# Altium footprint library FootPrintLib_6.PcbLib: 588 footprints (part 5 of 37)
Each footprint in its own frame and in the unit in brackets; x right, y up, seen from the top. Pads: shape width x height; smd on the part's side, far side on the other; paste and mask are expansions set on the pad; w line width, h text height; cw(c..) or ccw(c..) is an arc to the next point about the centre after c.
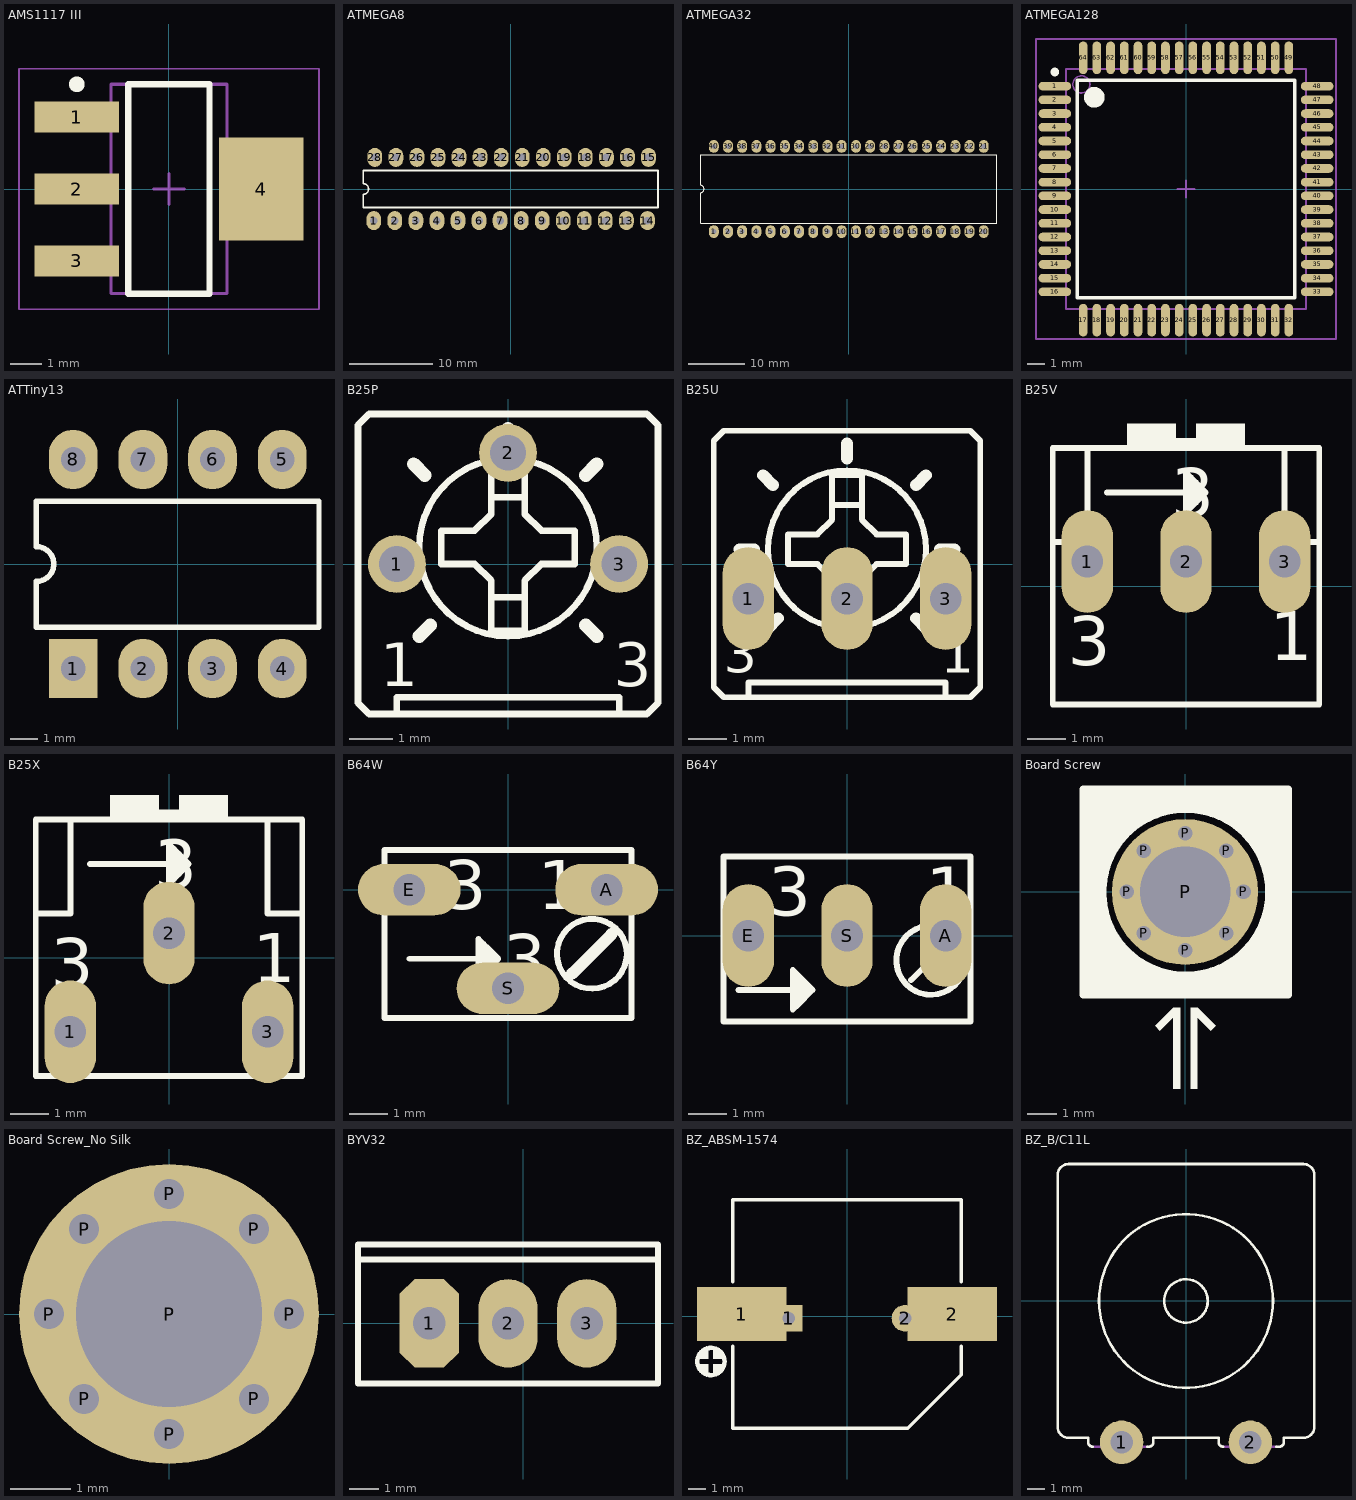
[diagram p4: the footprints below, top view; thin cyan lines are the x and y axes]

## AMS1117 III [mm]
pads (4):
  rect 2.7x1 smd: 1(-2.95,2.3) 2(-2.95,0) 3(-2.95,-2.3)
  rect 2.7x3.3 smd: 4(2.95,0)
Top Overlay:
  circle w0.25: c-2.95,3.35 r0.125
  lines w0.2: -1.3,-3.35 -1.3,3.35 1.3,3.35 1.3,-3.35 -1.3,-3.35
Mechanical 13:
  lines w0.1: -1.85,-3.35 -1.85,3.35 1.85,3.35 1.85,-3.35 -1.85,-3.35
Mechanical 15:
  lines w0.05: -4.8,-3.85 -4.8,3.85 4.8,3.85 4.8,-3.85 -4.8,-3.85
  lines w0.1: -0.5,0 0.5,0 ; 0,-0.5 0,0.5
3D body: height 1.8, standoff 0.02, extent -1.85,-3.35 1.85,3.35

## ATMEGA8 [mil]
pads (28):
  oval 70x90 hole 35.43: 1(-650,-150) 2(-550,-150) 3(-450,-150) 4(-350,-150) 5(-250,-150) 6(-150,-150) 7(-50,-150) 8(50,-150) 9(150,-150) 10(250,-150) 11(350,-150) 12(450,-150) 13(550,-150) 14(650,-150) 15(655,150) 16(555,150) 17(455,150) 18(355,150) 19(255,150) 20(155,150) 21(55,150) 22(-45,150) 23(-145,150) 24(-245,150) 25(-345,150) 26(-445,150) 27(-545,150) 28(-645,150)
Top Overlay:
  lines w7.87: -700,-87.6 -700,-25 ccw(c-700,0) -700,25 -700,87.6 700,87.6 700,-87.6 -700,-87.6

## ATMEGA32 [mil]
pads (40):
  oval 70x90 hole 35.43: 1(-950,-300) 2(-850,-300) 3(-750,-300) 4(-650,-300) 5(-550,-300) 6(-450,-300) 7(-350,-300) 8(-250,-300) 9(-150,-300) 10(-50,-300) 11(50,-300) 12(150,-300) 13(250,-300) 14(350,-300) 15(450,-300) 16(550,-300) 17(650,-300) 18(750,-300) 19(850,-300) 20(950,-300) 21(950,300) 22(850,300) 23(750,300) 24(650,300) 25(550,300) 26(450,300) 27(350,300) 28(250,300) 29(150,300) 30(50,300) 31(-50,300) 32(-150,300) 33(-250,300) 34(-350,300) 35(-450,300) 36(-550,300) 37(-650,300) 38(-750,300) 39(-850,300) 40(-950,300)
Top Overlay:
  lines w7.87: -1043.31,-240 1043.31,-240 1043.31,240 -1043.31,240 -1043.31,25 cw(c-1043.31,0) -1043.31,-25 -1043.31,-240

## ATMEGA128 [mm]
pads (64):
  oval 1.905x0.508 smd: 1(-7.65,6) 2(-7.65,5.2) 3(-7.65,4.4) 4(-7.65,3.6) 5(-7.65,2.8) 6(-7.65,2) 7(-7.65,1.2) 8(-7.65,0.4) 9(-7.65,-0.4) 10(-7.65,-1.2) 11(-7.65,-2) 12(-7.65,-2.8) 13(-7.65,-3.6) 14(-7.65,-4.4) 15(-7.65,-5.2) 16(-7.65,-6) 33(7.65,-6) 34(7.65,-5.2) 35(7.65,-4.4) 36(7.65,-3.6) 37(7.65,-2.8) 38(7.65,-2) 39(7.65,-1.2) 40(7.65,-0.4) 41(7.65,0.4) 42(7.65,1.2) 43(7.65,2) 44(7.65,2.8) 45(7.65,3.6) 46(7.65,4.4) 47(7.65,5.2) 48(7.65,6)
  oval 0.508x1.905 smd: 17(-6,-7.65) 18(-5.2,-7.65) 19(-4.4,-7.65) 20(-3.6,-7.65) 21(-2.8,-7.65) 22(-2,-7.65) 23(-1.2,-7.65) 24(-0.4,-7.65) 25(0.4,-7.65) 26(1.2,-7.65) 27(2,-7.65) 28(2.8,-7.65) 29(3.6,-7.65) 30(4.4,-7.65) 31(5.2,-7.65) 32(6,-7.65) 49(6,7.65) 50(5.2,7.65) 51(4.4,7.65) 52(3.6,7.65) 53(2.8,7.65) 54(2,7.65) 55(1.2,7.65) 56(0.4,7.65) 57(-0.4,7.65) 58(-1.2,7.65) 59(-2,7.65) 60(-2.8,7.65) 61(-3.6,7.65) 62(-4.4,7.65) 63(-5.2,7.65) 64(-6,7.65)
Top Overlay:
  circle w0.25: c-7.65,6.825 r0.125
  circle w0.6: c-5.35,5.35 r0.3
  lines w0.2: -6.35,-6.35 -6.35,6.35 6.35,6.35 6.35,-6.35 -6.35,-6.35
Mechanical 13:
  circle w0.1: c-6.1,6.1 r0.5
  lines w0.1: -7,-7 -7,7 7,7 7,-7 -7,-7
Mechanical 15:
  lines w0.1: -0.5,0 0.5,0 ; 0,-0.5 0,0.5 ; -8.75,-8.75 -8.75,8.75 8.75,8.75 8.75,-8.75 -8.75,-8.75

## ATTiny13 [mil]
pads (8):
  rect 70x85 hole 35.43: 1(-150,-150)
  oval 70x85 hole 35.43: 2(-50,-150) 3(50,-150) 4(150,-150) 5(150,150) 6(50,150) 7(-50,150) 8(-150,150)
Top Overlay:
  lines w7.87: -202.76,-91 -202.76,-25 ccw(c-202.76,0) -202.76,25 -202.76,90 202.76,90 202.76,-91 -202.76,-91

## B25P [mil]
pads (3):
  round 52 hole 32: 1(-100,0) 2(0,100) 3(100,0)
Top Overlay:
  circle w6: c0,15 r80
  lines w6: -100,-135 -125,-135 -135,-125 -135,-60 -135,-10 -135,125 -125,135 125,135 135,125 135,-10 135,-60 135,-125 125,-135 100,-135 ; -100,-135 -100,-120 -40,-120 40,-120 100,-120 100,-135 ; -100,-135 -25,-135 25,-135 100,-135 ; -15,-30 -15,-15 -30,0 -60,0 -60,30 -30,30 -15,45 -15,60 ; -15,-30 15,-30 ; -15,-30 -15,-60 15,-60 15,-30 ; -15,60 -15,90 15,90 15,60 ; -15,60 15,60 ; 15,-30 15,-15 30,0 60,0 60,30 30,30 15,45 15,60
  lines w12: -109,15 -94,15 ; -85,90 -75,80 ; -80,-65 -70,-55 ; 0,107 0,122 ; 70,-55 80,-65 ; 70,80 80,90 ; 94,15 109,15
  text "3" at 95,-110 h39
  text "1" at -115,-110 h39

## B25U [mil]
pads (3):
  oval 52x104 hole 32: 1(-100,-35) 2(0,-35) 3(100,-35)
Top Overlay:
  circle w6: c0,15 r80
  lines w6: 100,-135 100,-120 -100,-120 -100,-135 ; -100,-135 -125,-135 -135,-125 -135,-60 -135,-10 -135,125 -125,135 125,135 135,125 135,-10 135,-60 135,-125 125,-135 -100,-135 ; -15,-30 -15,-15 -30,0 -60,0 -60,30 -30,30 -15,45 -15,60 ; -15,-30 15,-30 ; -15,-30 -15,-60 15,-60 15,-30 ; -15,60 -15,90 15,90 15,60 ; -15,60 15,60 ; 15,-30 15,-15 30,0 60,0 60,30 30,30 15,45 15,60
  lines w12: -109,15 -94,15 ; -85,90 -75,80 ; -80,-65 -70,-55 ; 0,107 0,122 ; 70,-55 80,-65 ; 70,80 80,90 ; 94,15 109,15
  text "3" at -125,-110 h39
  text "1" at 95,-110 h39

## B25V [mil]
pads (3):
  oval 52x104 hole 32: 1(-100,25) 2(0,25) 3(100,25)
Top Overlay:
  rectangle: -60,140 -10,165
  rectangle: 10,140 60,165
  rectangle: -10,140 10,150
  lines w6: -135,45 -100,45 -100,70 -100,140 ; -80,95 5,95 ; 135,45 100,45 100,70 100,140 ; -100,140 100,140 ; -100,140 -135,140 -135,50 -135,0 -135,-120 135,-120 135,0 135,50 135,140 100,140 ; 5,80 10,85 ; 5,80 5,95 ; 5,80 0,75 0,115 5,110 ; 5,95 20,95 ; 5,95 5,110 ; 5,110 10,105 ; 10,85 10,105 ; 10,85 15,90 ; 10,105 15,100 ; 15,90 20,95 ; 15,90 15,100 ; 15,100 20,95
  text "3" at -120,-80 h50
  text "1" at 85,-75 h50
  text "3" at -15,70 h50

## B25X [mil]
pads (3):
  oval 52x104 hole 32: 1(-100,-75) 2(0,25) 3(100,-75)
Top Overlay:
  rectangle: -10,140 10,150
  rectangle: 10,140 60,165
  rectangle: -60,140 -10,165
  lines w6: -80,95 5,95 ; -135,45 -135,140 -100,140 ; -135,45 -100,45 -100,140 ; -135,45 -135,-50 -135,-100 -135,-120 135,-120 135,-100 135,-50 135,45 ; -100,140 100,140 ; 5,80 0,75 0,115 5,110 ; 5,80 5,95 ; 5,80 10,85 ; 5,95 5,110 ; 5,95 20,95 ; 5,110 10,105 ; 10,85 15,90 ; 10,85 10,105 ; 10,105 15,100 ; 15,90 15,100 ; 15,90 20,95 ; 15,100 20,95 ; 100,140 100,45 135,45 ; 100,140 135,140 135,45
  text "3" at -15,70 h50
  text "1" at 85,-25 h50
  text "3" at -120,-30 h50

## B64W [mil]
pads (3):
  oval 104x52 hole 32: A(100,0) E(-100,0) S(0,-100)
Top Overlay:
  lines w6: -100,-70 -25,-70 ; 50,-60 cw(c85,-65) 120,-60 cw(c85,-65) 60,-40 ; -25,-85 -20,-80 ; -25,-85 -25,-70 ; -25,-85 -30,-90 -30,-50 -25,-55 ; -25,-70 -10,-70 ; -25,-70 -25,-55 ; -25,-55 -20,-60 ; -20,-80 -20,-60 ; -20,-80 -15,-75 ; -20,-60 -15,-65 ; -15,-75 -10,-70 ; -15,-75 -15,-65 ; -15,-65 -10,-70 ; -125,-130 -125,-30 -125,30 -125,40 125,40 125,30 125,-30 125,-130 30,-130 -30,-130 -125,-130
  lines w12: 65,-85 105,-45
  text "3" at -65,-20 h50
  text "1" at 30,-20 h50
  text "3" at -5,-95 h50

## B64Y [mil]
pads (3):
  oval 52x104 hole 32: A(100,0) E(-100,0) S(0,0)
Top Overlay:
  circle w6: c85,-25 r35
  lines w6: -110,-55 -50,-55 ; 65,-45 105,-5 ; -50,-70 -45,-65 ; -50,-70 -50,-55 ; -50,-70 -55,-75 -55,-35 -50,-40 ; -50,-55 -35,-55 ; -50,-55 -50,-40 ; -50,-40 -45,-45 ; -45,-65 -45,-45 ; -45,-65 -40,-60 ; -45,-45 -40,-50 ; -40,-60 -35,-55 ; -40,-60 -40,-50 ; -40,-50 -35,-55 ; -125,-87 -125,-55 -125,55 -125,80 125,80 125,55 125,-55 125,-87 -125,-87
  text "1" at 80,20 h50
  text "3" at -80,20 h50

## Board Screw [mm]
pads (9):
  round 0.6 hole 0.5: P(-2,0) P(-1.414,-1.414) P(-1.414,1.414) P(0,-2) P(0,2) P(1.414,-1.414) P(1.414,1.414) P(2,0)
  round 5 hole 3.1 mask+0.1: P(0,0)
Top Overlay:
  circle w0.889: c0.025,-0.012 r3.165
  region: 0.433,-3.957 0.253,-4.137 0.882,-4.765 1.062,-4.586
  rectangle: 0.179,-6.751 0.433,-3.957
  region: -1.038,-4.586 -0.859,-4.765 -0.23,-4.137 -0.41,-3.957
  region: -0.156,-3.957 -0.41,-3.957 -0.41,-6.751 -0.156,-6.751
  region: -3.492,-3.528 -3.489,-3.531 -0.749,-3.531 -0.749,-3.482 -3.492,-0.739
  region: 3.559,-3.526 3.556,-3.528 0.816,-3.528 0.816,-3.479 3.559,-0.736
  region: 3.559,3.508 3.556,3.51 0.816,3.51 0.816,3.461 3.559,0.718
  region: -3.492,3.505 -3.489,3.508 -0.749,3.508 -0.749,3.458 -3.492,0.716
  lines w0.254: -3.494,-3.511 -3.494,3.522 3.539,3.522 ; -3.492,-3.528 3.542,-3.528 3.542,3.505
Bottom Overlay:
  circle w0.889: c0.025,-0.012 r3.165
  region: -3.492,3.505 -3.489,3.508 -0.749,3.508 -0.749,3.458 -3.492,0.716
  region: 3.559,3.508 3.556,3.51 0.816,3.51 0.816,3.461 3.559,0.718
  region: 3.559,-3.526 3.556,-3.528 0.816,-3.528 0.816,-3.479 3.559,-0.736
  region: -3.492,-3.528 -3.489,-3.531 -0.749,-3.531 -0.749,-3.482 -3.492,-0.739
  lines w0.254: -3.494,-3.511 -3.494,3.522 3.539,3.522 ; -3.492,-3.528 3.542,-3.528 3.542,3.505

## Board Screw_No Silk [mm]
pads (9):
  round 0.6 hole 0.5: P(-2,0) P(-1.414,-1.414) P(-1.414,1.414) P(0,-2) P(0,2) P(1.414,-1.414) P(1.414,1.414) P(2,0)
  round 5 hole 3.1 mask+0.1: P(0,0)

## BYV32 [mm] "BVY32-200"
height 29.16
pads (3):
  oct 2x3 hole 1.1: 1(-3.175,0)
  oval 2x3 hole 1.1: 2(-0.508,0) 3(2.159,0)
Top Overlay:
  lines w0.203: -5.588,2.413 -5.588,-2.032 4.572,-2.032 4.572,2.413 ; -5.588,2.159 -5.588,2.667 4.572,2.667 4.572,2.159 -5.588,2.159

## BZ_ABSM-1574 [mm] "Magnetic Transducer Buzzer"
pads (4):
  rect 5x3 smd: 1(-5.9,0.12) 2(5.9,0.12)
  rect 1.5x1.5 hole 0.7: 1(-3.25,-0.12)
  round 1.5 hole 0.7: 2(3.25,-0.12)
Top Overlay:
  circle w0.254: c-7.62,-2.54 r0.762
  rectangle: -8.255,-3.175 -7.747,-2.667
  rectangle: -7.493,-3.175 -6.985,-2.667
  rectangle: -7.493,-2.413 -6.985,-1.909
  rectangle: -8.255,-2.413 -7.747,-1.909
  lines w0.2: -6.4,-1.68 -6.4,-6.28 3.4,-6.28 6.4,-3.28 6.4,-1.68 ; -6.4,1.92 -6.4,6.52 6.4,6.52 6.4,1.92

## BZ_B/C11L [mil] "BUZZER  Source: Buerklin"
pads (2):
  round 100 hole 52: 1(-148,-325) 2(148,-325)
Top Overlay:
  circle w6: c0,0 r200
  circle w6: c0,0 r50
  lines w6: -215,-335 cw(c-215,-325) -225,-325 -225,-315 -270,-315 cw(c-270,-290) -295,-290 -295,290 cw(c-270,290) -270,315 270,315 cw(c270,290) 295,290 295,-290 cw(c270,-290) 270,-315 225,-315 225,-325 cw(c215,-325) 215,-335 207.17,-335 ; -88.86,-335 -85,-335 ccw(c-85,-325) -75,-325 -75,-315 75,-315 75,-325 ccw(c85,-325) 85,-335
Mechanical 1:
  lines w6: -215,-335 -207.17,-335 -185,-335 ccw(c-185,-325) -175,-325 ; -88.86,-335 -115,-335 cw(c-115,-325) -125,-325 ; 85,-335 88.86,-335 115,-335 ccw(c115,-325) 125,-325 ; 207.17,-335 185,-335 cw(c185,-325) 175,-325 ; -175,-325 cw(c-165,-325) -165,-315 -135,-315 cw(c-135,-325) -125,-325 ; -175,-325 -175,-340 ccw(c-165,-340) -165,-350 -135,-350 ccw(c-135,-340) -125,-340 -125,-325 ; 125,-325 cw(c135,-325) 135,-315 165,-315 cw(c165,-325) 175,-325 ; 125,-325 125,-340 ccw(c135,-340) 135,-350 165,-350 ccw(c165,-340) 175,-340 175,-325